# Altium footprint library Coiltronics Footprints.PcbLib: 4 footprints
Each footprint in its own frame and in the unit in brackets; x right, y up, seen from the top. Pads: shape width x height; smd on the part's side, far side on the other; paste and mask are expansions set on the pad; w line width, h text height; cw(c..) or ccw(c..) is an arc to the next point about the centre after c.
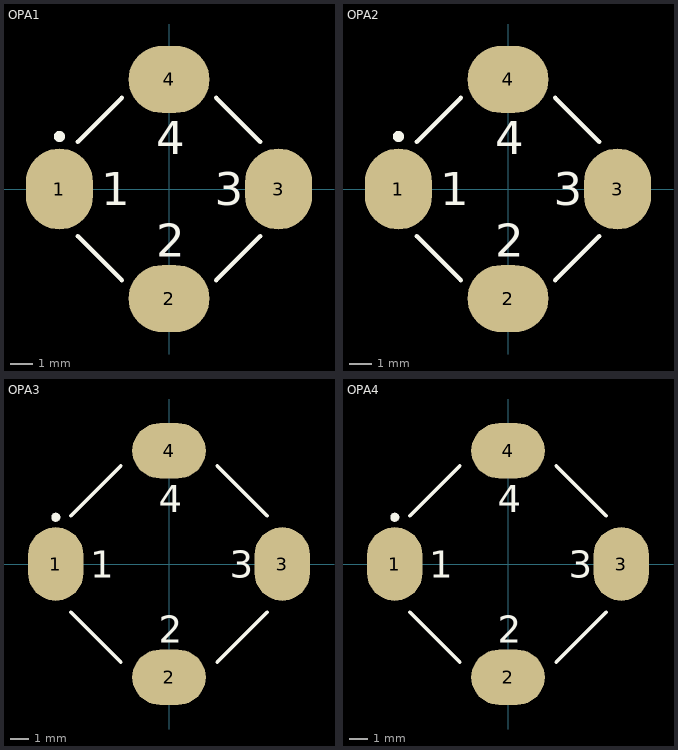
[diagram p0: the footprints below, top view; thin cyan lines are the x and y axes]

## OPA1 [mm] "SM Inductor/Transformer; 4 Leads; Body 8.89 x 8.89 x 4.19 mm (LxWxH)"
height 4.19
pads (4):
  oval 3.05x3.68 smd: 1(-4.98,0) 3(4.98,0)
  oval 3.68x3.05 smd: 2(0,-4.98) 4(0,4.98)
Top Overlay:
  circle w0.25: c-4.98,2.39 r0.125
  lines w0.2: -4.145,-2.14 -2.14,-4.145 ; -4.145,2.14 -2.14,4.145 ; 2.14,-4.145 4.145,-2.14 ; 2.14,4.145 4.145,2.14
  text "1" at -3.08,-0.75 h1.5
  text "2" at -0.575,-3.08 h1.5
  text "4" at -0.575,1.58 h1.5
  text "3" at 2.08,-0.75 h1.5

## OPA2 [mm] "SM Inductor/Transformer; 4 Leads; Body 8.89 x 8.89 x 5.97 mm (LxWxH)"
height 5.97
pads (4):
  oval 3.05x3.68 smd: 1(-4.98,0) 3(4.98,0)
  oval 3.68x3.05 smd: 2(0,-4.98) 4(0,4.98)
Top Overlay:
  circle w0.25: c-4.98,2.39 r0.125
  lines w0.2: -4.145,-2.14 -2.14,-4.145 ; -4.145,2.14 -2.14,4.145 ; 2.14,-4.145 4.145,-2.14 ; 2.14,4.145 4.145,2.14
  text "1" at -3.08,-0.75 h1.5
  text "2" at -0.575,-3.08 h1.5
  text "4" at -0.575,1.58 h1.5
  text "3" at 2.08,-0.75 h1.5

## OPA3 [mm] "SM Inductor/Transformer; 4 Leads; Body 11.43 x 11.43 x 4.83 mm (LxWxH)"
height 4.83
pads (4):
  oval 3.05x4.06 smd: 1(-6.25,0) 3(6.25,0)
  oval 4.06x3.05 smd: 2(0,-6.25) 4(0,6.25)
Top Overlay:
  circle w0.25: c-6.25,2.58 r0.125
  lines w0.2: -5.415,-2.66 -2.66,-5.415 ; -5.415,2.66 -2.66,5.415 ; 2.66,-5.415 5.415,-2.66 ; 2.66,5.415 5.415,2.66
  text "3" at 3.35,-0.75 h1.5
  text "2" at -0.575,-4.35 h1.5
  text "4" at -0.575,2.85 h1.5
  text "1" at -4.35,-0.75 h1.5

## OPA4 [mm] "SM Inductor/Transformer; 4 Leads; Body 11.43 x 11.43 x 6.35 mm (LxWxH)"
height 6.35
pads (4):
  oval 3.05x4.06 smd: 1(-6.25,0) 3(6.25,0)
  oval 4.06x3.05 smd: 2(0,-6.25) 4(0,6.25)
Top Overlay:
  circle w0.25: c-6.25,2.58 r0.125
  lines w0.2: -5.415,-2.66 -2.66,-5.415 ; -5.415,2.66 -2.66,5.415 ; 2.66,-5.415 5.415,-2.66 ; 2.66,5.415 5.415,2.66
  text "1" at -4.35,-0.75 h1.5
  text "4" at -0.575,2.85 h1.5
  text "2" at -0.575,-4.35 h1.5
  text "3" at 3.35,-0.75 h1.5